# Altium schematic symbol library Vowstar_Basic_Device.SchLib: 150 symbols
Pins are listed as number, name and electrical type; pins without a type are passive.

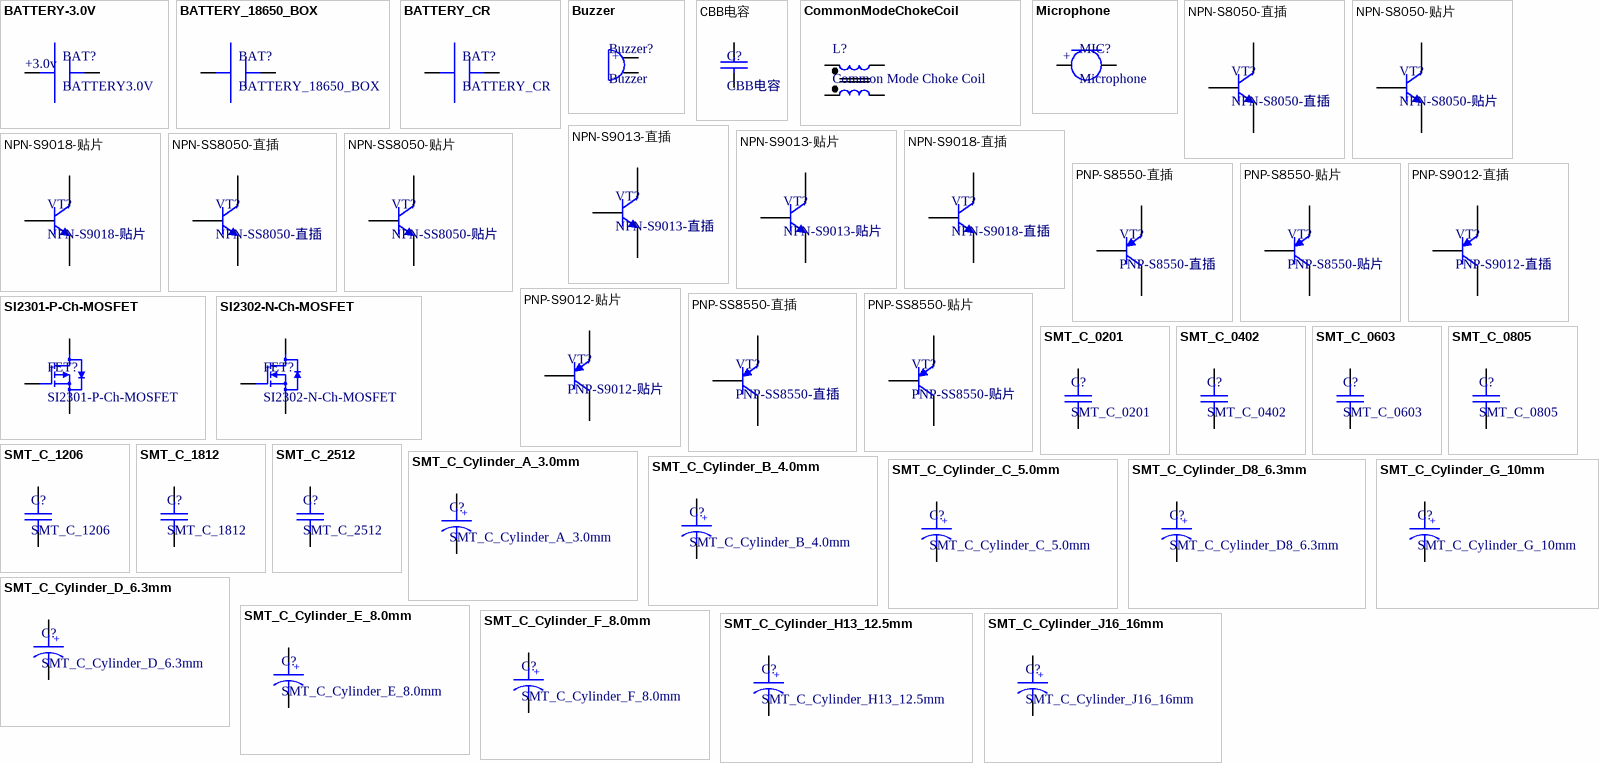
[diagram p0: symbols BATTERY-3.0V to SMT_C_Cylinder_J16_16mm]

## BATTERY-3.0V
designator BAT?, comment BATTERY3.0V
footprint BATTERY3.0V
pins: 1 +, 2 -
text: +3.0v

## BATTERY_18650_BOX
designator BAT?
footprint BATTERY_18650_BOX
pins: 1 +, 2 -

## BATTERY_CR
designator BAT?
CR1220/CR2032
footprint BATTERY_CR1220 (CR1220)
footprint BATTERY_CR2032 (CR2032)
pins: 1 +, 2 -

## Buzzer
designator Buzzer?
footprint Buzzer
footprint BUZZER-SMALL-PAD
pins: 1, 2
text: +

## CBB电容
designator C?
footprint CBB电容-5mm (CBB电容)
footprint CBB电容-10mm (CBB电容)
footprint CBB电容-15mm (CBB电容)
footprint CBB电容-20mm (CBB电容)
footprint CBB电容-25mm (CBB电容)
pins: 1, 2

## CommonModeChokeCoil
designator L?, comment Common Mode Choke Coil
Common Mode Choke Coils
footprint DLW5BT (DLW5BT Series (2020 Size) Common Mode Choke Coil Wire Wound Type for Large Current)
pins: 1, 2, 3, 4

## Microphone
designator MIC?
footprint Microphone
pins: 1 +, 2 -

## NPN-S8050-直插
designator VT?
footprint NPN-S8050-直插
pins: 1 E, 2 B, 3 C

## NPN-S8050-贴片
designator VT?
footprint NPN-S8050-贴片
pins: 1 B, 2 E, 3 C

## NPN-S9013-直插
designator VT?
footprint NPN-S9013-直插
pins: 1 E, 2 B, 3 C

## NPN-S9013-贴片
designator VT?
footprint NPN-S9013-贴片
pins: 1 B, 2 E, 3 C

## NPN-S9018-直插
designator VT?
footprint NPN-S9018-直插
pins: 1 E, 2 B, 3 C

## NPN-S9018-贴片
designator VT?
footprint NPN-S9018-贴片
pins: 1 B, 2 E, 3 C

## NPN-SS8050-直插
designator VT?
footprint NPN-SS8050-直插
pins: 1 E, 2 B, 3 C

## NPN-SS8050-贴片
designator VT?
footprint NPN-SS8050-贴片
pins: 1 B, 2 E, 3 C

## PNP-S8550-直插
designator VT?
footprint PNP-S8550-直插
pins: 1 E, 2 B, 3 C

## PNP-S8550-贴片
designator VT?
footprint PNP-S8550-贴片
pins: 1 B, 2 E, 3 C

## PNP-S9012-直插
designator VT?
footprint PNP-S9012-直插
pins: 1 E, 2 B, 3 C

## PNP-S9012-贴片
designator VT?
footprint PNP-S9012-贴片
pins: 1 B, 2 E, 3 C

## PNP-SS8550-直插
designator VT?
footprint PNP-SS8550-直插
pins: 1 E, 2 B, 3 C

## PNP-SS8550-贴片
designator VT?
footprint PNP-SS8550-贴片
pins: 1 B, 2 E, 3 C

## SI2301-P-Ch-MOSFET
designator FET?
SI2301-P-Ch,-2.3A, -20V.RDS(ON) = 0.190Ω @ VGS = -2.5 V
footprint SI2301-P-Ch-MOSFET
pins: 1 G, 2 S, 3 D

## SI2302-N-Ch-MOSFET
designator FET?
SI2302-N-Ch,3A, 20V.RDS(ON) = 0.082Ω @ VGS = 2.5 V
footprint SI2302-N-Ch-MOSFET
pins: 1 G, 2 S, 3 D

## SMT_C_0201
designator C?
Surface mount capacitor 0201
footprint SMT_C_0201
footprint SMT_C_0201_H (Chip Capacitor, 2-Leads, Body 0.60x0.30mm, IPC High Density)
pins: 1, 2

## SMT_C_0402
designator C?
Surface mount capacitor 0402
footprint SMT_C_0402 (Surface mount capacitor 0402)
pins: 1, 2

## SMT_C_0603
designator C?
Surface mount capacitor 0603
footprint SMT_C_0603 (Surface mount capacitor 0603)
pins: 1, 2

## SMT_C_0805
designator C?
Surface mount capacitor 0805
footprint SMT_C_0805 (Surface mount capacitor 0805)
pins: 1, 2

## SMT_C_1206
designator C?
Surface mount capacitor 1206
footprint SMT_C_1206 (Surface mount capacitor 1206)
pins: 1, 2

## SMT_C_1812
designator C?
Surface mount capacitor 1812
footprint SMT_C_1812 (Surface mount capacitor 1812)
pins: 1, 2

## SMT_C_2512
designator C?
Surface mount capacitor 2512
footprint SMT_C_2512 (Surface mount capacitor 2512)
pins: 1, 2

## SMT_C_Cylinder_A_3.0mm
designator C?
Surface mount cylindrical capacitor-A-3.0mm
footprint SMT_C_Cylinder_A_3.0mm (Surface mount cylindrical capacitor type A 3.0mm)
pins: 1, 2
text: +

## SMT_C_Cylinder_B_4.0mm
designator C?
Surface mount cylindrical capacitor-B-4.0mm
footprint SMT_C_Cylinder_B_4.0mm (Surface mount cylindrical capacitor type B 4.0mm)
pins: 1, 2
text: +

## SMT_C_Cylinder_C_5.0mm
designator C?
Surface mount cylindrical capacitor-C-5.0mm
footprint SMT_C_Cylinder_C_5.0mm (Surface mount cylindrical capacitor type C 5.0mm)
pins: 1, 2
text: +

## SMT_C_Cylinder_D8_6.3mm
designator C?
Surface mount cylindrical capacitor-D8-6.3mm
footprint SMT_C_Cylinder_D8_6.3mm (Surface mount cylindrical capacitor type D8 6.3mm)
pins: 1, 2
text: +

## SMT_C_Cylinder_D_6.3mm
designator C?
Surface mount cylindrical capacitor-D-6.3mm
footprint SMT_C_Cylinder_D_6.3mm (Surface mount cylindrical capacitor type D 6.3mm)
pins: 1, 2
text: +

## SMT_C_Cylinder_E_8.0mm
designator C?
Surface mount cylindrical capacitor-E-8.0mm
footprint SMT_C_Cylinder_E_8.0mm (Surface mount cylindrical capacitor type E 8.0mm)
pins: 1, 2
text: +

## SMT_C_Cylinder_F_8.0mm
designator C?
Surface mount cylindrical capacitor-F-8.0mm
footprint SMT_C_Cylinder_F_8.0mm (Surface mount cylindrical capacitor type F 8.0mm)
pins: 1, 2
text: +

## SMT_C_Cylinder_G_10mm
designator C?
Surface mount cylindrical capacitor-G-10mm
footprint SMT_C_Cylinder_G_10mm (Surface mount cylindrical capacitor type G 10mm)
pins: 1, 2
text: +

## SMT_C_Cylinder_H13_12.5mm
designator C?
Surface mount cylindrical capacitor-H13-12.5mm
footprint SMT_C_Cylinder_H13_12.5mm (Surface mount cylindrical capacitor type H 12.5mm)
pins: 1, 2
text: +

## SMT_C_Cylinder_J16_16mm
designator C?
Surface mount cylindrical capacitor-J16-16mm
footprint SMT_C_Cylinder_J16_16mm (Surface mount cylindrical capacitor type J16 16mm)
pins: 1, 2
text: +

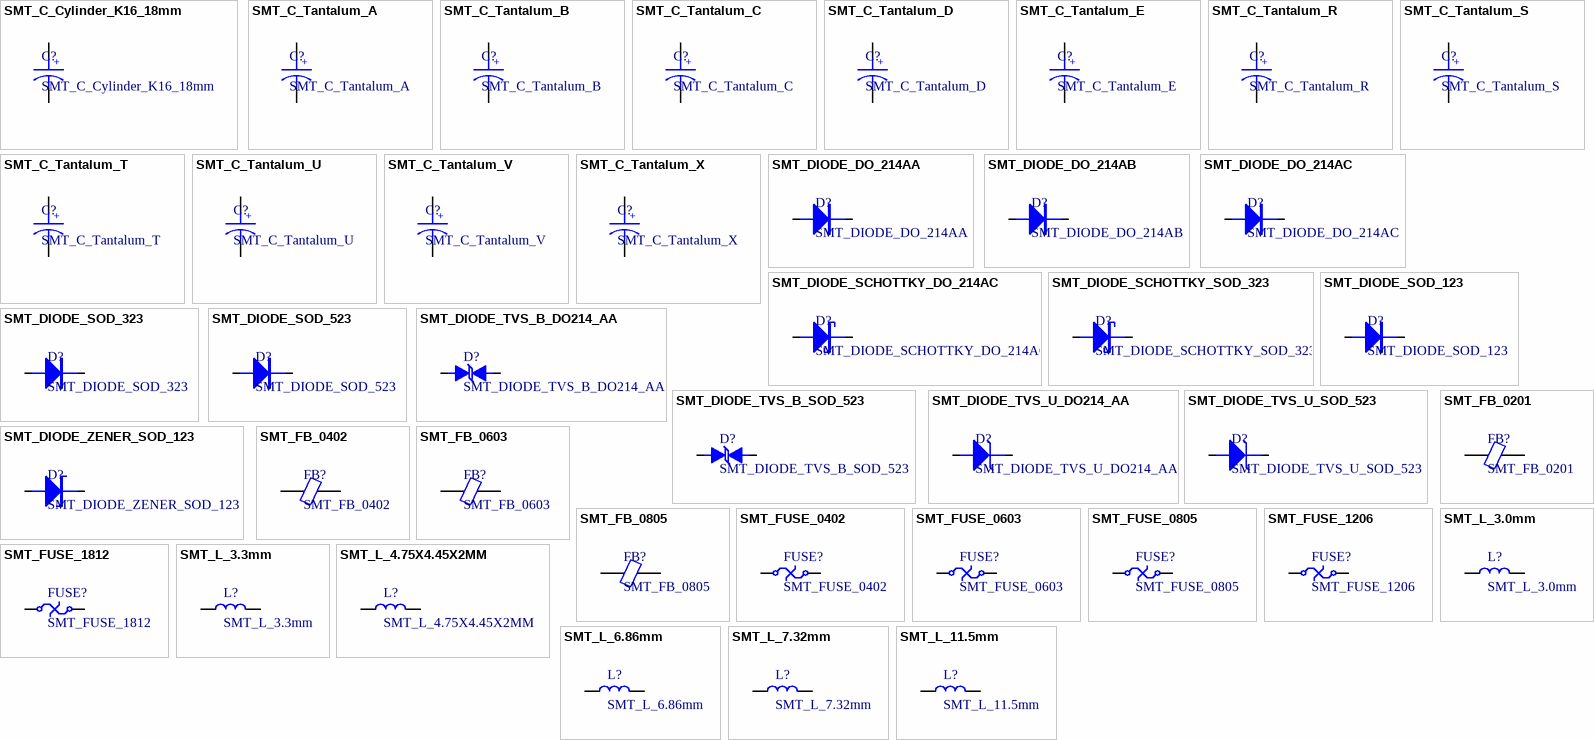
[diagram p1: symbols SMT_C_Cylinder_K16_18mm to SMT_L_11.5mm]

## SMT_C_Cylinder_K16_18mm
designator C?
Surface mount cylindrical capacitor-K16-18mm
footprint SMT_C_Cylinder_K16_18mm (Surface mount cylindrical capacitor type K16 18mm)
pins: 1, 2
text: +

## SMT_C_Tantalum_A
designator C?
Capacitor, SM Tantalum; Body 3.2 x 1.6 mm (LxW typ)
footprint SMT_C_Tantalum_A (Capacitor, SM Tantalum; Body 3.2 x 1.6 mm (LxW typ))
pins: 1, 2
text: +

## SMT_C_Tantalum_B
designator C?
Capacitor, SM Tantalum; Body 3.5 x 2.8 mm (LxW typ)
footprint SMT_C_Tantalum_B (Capacitor, SM Tantalum; Body 3.5 x 2.8 mm (LxW typ))
pins: 1, 2
text: +

## SMT_C_Tantalum_C
designator C?
Capacitor, SM Tantalum; Body 6.0 x 3.2 mm (LxW typ)
footprint SMT_C_Tantalum_C (Capacitor, SM Tantalum; Body 6.0 x 3.2 mm (LxW typ))
pins: 1, 2
text: +

## SMT_C_Tantalum_D
designator C?
Capacitor, SM Tantalum; Body 7.3 x 4.3 mm (LxW typ)
footprint SMT_C_Tantalum_D (Capacitor, SM Tantalum; Body 7.3 x 4.3 mm (LxW typ))
pins: 1, 2
text: +

## SMT_C_Tantalum_E
designator C?
Capacitor, SM Tantalum; Body 7.3 x 6.0 mm (LxW typ)
footprint SMT_C_Tantalum_E (Capacitor, SM Tantalum; Body 7.3 x 6.0 mm (LxW typ))
pins: 1, 2
text: +

## SMT_C_Tantalum_R
designator C?
Capacitor, SM Tantalum; Body 2.0 x 1.3 mm (LxW typ)
footprint SMT_C_Tantalum_R (Capacitor, SM Tantalum; Body 2.0 x 1.3 mm (LxW typ))
pins: 1, 2
text: +

## SMT_C_Tantalum_S
designator C?
Capacitor, SM Tantalum; Body 3.2 x 1.6 mm (LxW typ)
footprint SMT_C_Tantalum_S (Capacitor, SM Tantalum; Body 3.2 x 1.6 mm (LxW typ))
pins: 1, 2
text: +

## SMT_C_Tantalum_T
designator C?
Capacitor, SM Tantalum; Body 3.5 x 2.8 mm (LxW typ)
footprint SMT_C_Tantalum_T (Capacitor, SM Tantalum; Body 3.5 x 2.8 mm (LxW typ))
pins: 1, 2
text: +

## SMT_C_Tantalum_U
designator C?
Capacitor, SM Tantalum; Body 6.0 x 3.2 mm (LxW typ)
footprint SMT_C_Tantalum_U (Capacitor, SM Tantalum; Body 6.0 x 3.2 mm (LxW typ))
pins: 1, 2
text: +

## SMT_C_Tantalum_V
designator C?
Capacitor, SM Tantalum; Body 7.3 x 4.3 mm (LxW typ)
footprint SMT_C_Tantalum_V (Capacitor, SM Tantalum; Body 7.3 x 4.3 mm (LxW typ))
pins: 1, 2
text: +

## SMT_C_Tantalum_X
designator C?
Capacitor, SM Tantalum; Body 7.3 x 4.3 mm (LxW typ)
footprint SMT_C_Tantalum_X (Capacitor, SM Tantalum; Body 7.3 x 4.3 mm (LxW typ))
pins: 1, 2
text: +

## SMT_DIODE_DO_214AA
designator D?
Surface mount diode DO-214AA(SMB) Package
footprint SMT_DIODE_DO_214AA (DO-214AA(SMB) Package)
pins: 1 A, 2 K

## SMT_DIODE_DO_214AB
designator D?
Surface mount diode DO-214AB(SMC) Package
footprint SMT_DIODE_DO_214AB (DO-214AB(SMC) Package)
pins: 1 A, 2 K

## SMT_DIODE_DO_214AC
designator D?
Surface mount diode DO-214AC(SMA) package
footprint SMT_DIODE_DO_214AC (DO-214AC(SMA) Package)
pins: 1 A, 2 K

## SMT_DIODE_SCHOTTKY_DO_214AC
designator D?
Surface mount schottky diode DO-214AC(SMA) Package
footprint SMT_DIODE_DO_214AC (DO-214AC(SMA) Package)
pins: 1 A, 2 K

## SMT_DIODE_SCHOTTKY_SOD_323
designator D?
Surface mount schottky diode SOD-323(0805) Package
footprint SMT_DIODE_SOD_323 (SOD-323(0805) Package)
pins: 1 A, 2 K

## SMT_DIODE_SOD_123
designator D?
Surface mount diode SOD-123(1206) Package
footprint SMT_DIODE_SOD_123 (SOD-123(1206) Package)
pins: 1 A, 2 K

## SMT_DIODE_SOD_323
designator D?
Surface mount diode SOD-323(0805) Package
footprint SMT_DIODE_SOD_323 (SOD-323(0805) Package)
pins: 1 A, 2 K

## SMT_DIODE_SOD_523
designator D?
Surface mount diode SOD-523(0603) Package
footprint SMT_DIODE_SOD_523 (SOD-523(0603) Package)
pins: 1 A, 2 K

## SMT_DIODE_TVS_B_DO214_AA
designator D?
Surface mount bidirectional TVS diode DO-214AA(SMB) Package
footprint SMT_DIODE_DO_214AA (DO-214AA(SMB) Package)
pins: 1 A, 2 K

## SMT_DIODE_TVS_B_SOD_523
designator D?
Surface mount bidirectional TVS diode SOD-523(0603) Package
footprint SMT_DIODE_SOD_523 (SOD-523(0603) Package)
pins: 1 A, 2 K

## SMT_DIODE_TVS_U_DO214_AA
designator D?
Surface mount unidirectional TVS diode DO-214AA(SMB) Package
footprint SMT_DIODE_DO_214AA (DO-214AA(SMB) Package)
pins: 1 A, 2 K

## SMT_DIODE_TVS_U_SOD_523
designator D?
Surface mount unidirectional TVS diode SOD-523(0603) Package
footprint SMT_DIODE_SOD_523 (SOD-523(0603) Package)
pins: 1 A, 2 K

## SMT_DIODE_ZENER_SOD_123
designator D?
Surface mount zener diode SOD-123(1206) Package
footprint SMT_DIODE_SOD_123 (SOD-123(1206) Package)
pins: 1 A, 2 K

## SMT_FB_0201
designator FB?
Surface mount ferrite beads 0201
footprint SMT_FB_0201 (Surface mount ferrite beads 0201)
footprint SMT_FB_0201_H (Chip Ferrite beads, 2-Leads, Body 0.60x0.30mm, IPC High Density)
pins: 1, 2

## SMT_FB_0402
designator FB?
Surface mount ferrite beads 0402
footprint SMT_FB_0402 (Surface mount ferrite beads 0402)
pins: 1, 2

## SMT_FB_0603
designator FB?
Surface mount ferrite beads 0603
footprint SMT_FB_0603 (Surface mount ferrite beads 0603)
pins: 1, 2

## SMT_FB_0805
designator FB?
Surface mount ferrite beads 0805
footprint SMT_FB_0805 (Surface mount ferrite beads 0805)
pins: 1, 2

## SMT_FUSE_0402
designator FUSE?
footprint SMT_FUSE_0402 (Surface mount FUSE 0402)
pins: 1, 2

## SMT_FUSE_0603
designator FUSE?
footprint SMT_FUSE_0603
pins: 1, 2

## SMT_FUSE_0805
designator FUSE?
footprint SMT_FUSE_0805
pins: 1, 2

## SMT_FUSE_1206
designator FUSE?
footprint SMT_FUSE_1206 (Surface mount FUSE 1206)
pins: 1, 2

## SMT_FUSE_1812
designator FUSE?
footprint SMT_FUSE_1812
pins: 1, 2

## SMT_L_3.0mm
designator L?
SMT Power Inductor, 3.3x3.3x1mm
footprint SMT_L_3.0mm (SMT Power Inductor, 3.0x3.0x1mm)
pins: 1, 2

## SMT_L_3.3mm
designator L?
LPO3310 SMT Power Inductor, 3.3x3.3x1mm
footprint SMT_L_3.3mm (LPO3310 SMT Power Inductor, 3.3x3.3x1mm)
pins: 1, 2

## SMT_L_4.75X4.45X2MM
designator L?
SMT Power Inductor,4.75x4.45x2mm, FXL0420-4R7-M
footprint SMT_L_4.75X4.45X2MM (SMT Power Inductor,4.75x4.45x2mm, FXL0420-4R7-M)
pins: 1, 2

## SMT_L_6.86mm
designator L?
Vishay IHLP2525,SMT Power Inductor,6.86x6.86x3mm
footprint SMT_L_6.86mm (Vishay IHLP2525,SMT Power Inductor,6.86x6.86x3mm)
pins: 1, 2

## SMT_L_7.32mm
designator L?
Power Inductor, 7.32x7.32x4mm
footprint SMT_L_7.32mm (Power Inductor, 7.32x7.32x4mm)
pins: 1, 2

## SMT_L_11.5mm
designator L?
Vishay HLP4040 SMT Inductor,11.5x11.5x4mm
footprint SMT_L_11.5mm (Vishay HLP4040 SMT Inductor,11.5x11.5x4mm)
pins: 1, 2

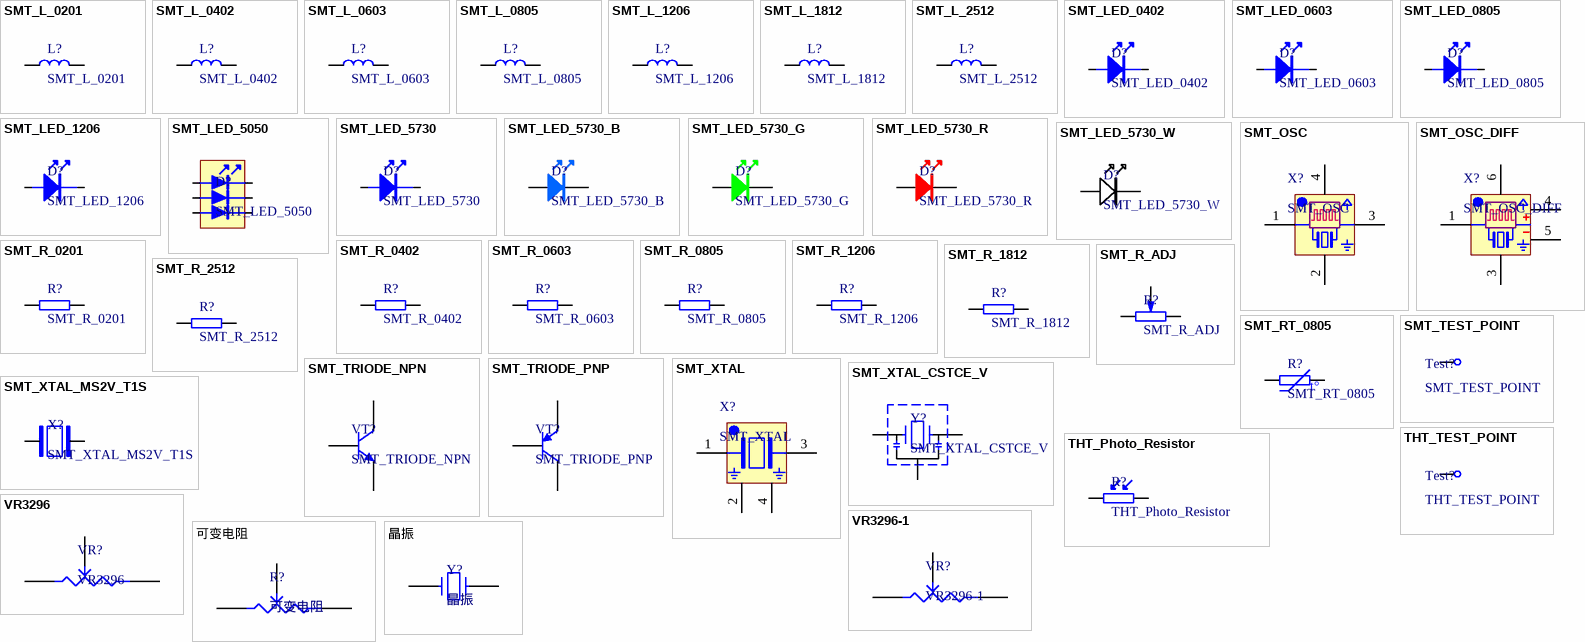
[diagram p2: symbols SMT_L_0201 to 晶振]

## SMT_L_0201
designator L?
Surface mount inductor 0201
footprint SMT_L_0201 (Surface mount inductors 0201)
footprint SMT_L_0201_H (Chip Inductor, 2-Leads, Body 0.60x0.30mm, IPC High Density)
pins: 1, 2

## SMT_L_0402
designator L?
Surface mount inductor 0402
footprint SMT_L_0402 (Surface mount inductor 0402)
pins: 1, 2

## SMT_L_0603
designator L?
Surface mount inductor 0603
footprint SMT_L_0603 (Surface mount inductor 0603)
pins: 1, 2

## SMT_L_0805
designator L?
Surface mount inductor 0805
footprint SMT_L_0805 (Surface mount inductor 0805)
pins: 1, 2

## SMT_L_1206
designator L?
Surface mount inductor 1206
footprint SMT_L_1206 (Surface mount inductor 1206)
pins: 1, 2

## SMT_L_1812
designator L?
Surface mount inductor 1812
footprint SMT_L_1812 (Surface mount inductor 1812)
pins: 1, 2

## SMT_L_2512
designator L?
Surface mount inductor 2512
footprint SMT_L_2512 (Surface mount inductor 2512)
pins: 1, 2

## SMT_LED_0402
designator D?
Surface mount LED 0402
footprint SMT_LED_0402 (Surface mount LED 0402)
pins: 1 A, 2 K

## SMT_LED_0603
designator D?
Surface mount LED 0603
footprint SMT_LED_0603 (SMT LED)
pins: 1 A, 2 K

## SMT_LED_0805
designator D?
Surface mount LED 0805
footprint SMT_LED_0805 (SMT LED)
pins: 1 A, 2 K

## SMT_LED_1206
designator D?
Surface mount LED 1206
footprint SMT_LED_1206 (Surface mount resistor 1206)
pins: 1 A, 2 K

## SMT_LED_5050
designator D?
Surface mount LED 5050
footprint SMT_LED_5050 (SMT LED)
footprint SMT_LED_5050_PAD (SMT LED)
pins: 1 K1, 2 K2, 3 K3, 4 A3, 5 A2, 6 A1

## SMT_LED_5730
designator D?
Surface mount LED 5730
footprint SMT_LED_5730_W (SMT LED 5730 Package)
footprint SMT_LED_5730_R (SMT LED 5730 Package)
footprint SMT_LED_5730_G (SMT LED 5730 Package)
footprint SMT_LED_5730_B (SMT LED 5730 Package)
pins: 1 A, 2 K

## SMT_LED_5730_B
designator D?
Surface mount LED 5730
footprint SMT_LED_5730_B (SMT LED 5730 Package)
pins: 1 A, 2 K

## SMT_LED_5730_G
designator D?
Surface mount LED 5730
footprint SMT_LED_5730_G (SMT LED 5730 Package)
pins: 1 A, 2 K

## SMT_LED_5730_R
designator D?
Surface mount LED 5730
footprint SMT_LED_5730_R (SMT LED 5730 Package)
pins: 1 A, 2 K

## SMT_LED_5730_W
designator D?
Surface mount LED 5730
footprint SMT_LED_5730_W (SMT LED 5730 Package)
pins: 1 A, 2 K

## SMT_OSC
designator X?
Active oscillator
footprint SMT_XTAL_2520 (Quartz Crystal, SM; Body 2.5 x 2.0 mm)
footprint SMT_XTAL_3225 (Quartz Crystal, SM; Body 3.2 x 2.5 mm)
pins: 1 OE/~{ST}/NC/GND "Output Enable (High) / Standby (Low) / Ground", 2 GND (power) "Electrical ground", 3 CLKO "Oscillator output", 4 VDD (power) "Power supply of oscillator"

## SMT_OSC_DIFF
designator X?
Differential active oscillator
footprint QFN_3225_6P (SMT; Body 5.0 x 3.2 mm)
pins: 1 ST/OE/SD "Standby or Output Enable pin for OUT+ andOUT-.  When High or Open : OUT+ and OUT- = active. When Low : OUT+ and OUT- = Output is low (weak pull down), oscillation stops.", 3 GND (power) "Electrical ground", 4 CLKO_P "Positive clock output.", 5 CLKO_N "Negative clock output.", 6 VDD (power) "Power supply of oscillator"

## SMT_R_0201
designator R?
Surface mount resistor 0201
footprint SMT_R_0201
footprint SMT_R_0201_H (Chip Resistor, 2-Leads, Body 0.60x0.30mm, IPC High Density)
pins: 1, 2

## SMT_R_0402
designator R?
Surface mount resistor 0402
footprint SMT_R_0402 (Surface mount resistor 0402)
pins: 1, 2

## SMT_R_0603
designator R?
Surface mount resistor 0603
footprint SMT_R_0603 (Surface mount resistor 0603)
pins: 1, 2

## SMT_R_0805
designator R?
Surface mount resistor 0805
footprint SMT_R_0805 (Surface mount resistor 0805)
pins: 1, 2

## SMT_R_1206
designator R?
Surface mount resistor 1206
footprint SMT_R_1206 (Surface mount resistor 1206)
pins: 1, 2

## SMT_R_1812
designator R?
Surface mount resistor 1812
footprint SMT_R_1812 (Surface mount resistor 1812)
pins: 1, 2

## SMT_R_2512
designator R?
Surface mount resistor 2512
footprint SMT_R_2512 (Surface mount resistor 2512)
pins: 1, 2

## SMT_R_ADJ
designator R?
Surface mount Trimmer, Adjustable resistor
footprint SMT_R_ADJ_3313J_1 (3313J SMD Cermet Trimmer Adjustable resistor)
footprint SMT_R_ADJ_3313J_2 (3313J SMD Cermet Trimmer Adjustable resistor)
footprint SMT_R_ADJ_3313X_1 (3313J SMD Cermet Trimmer Adjustable resistor)
footprint SMT_R_ADJ_3313X_2 (3313J SMD Cermet Trimmer Adjustable resistor)
pins: 1 CCW, 2 WIPER, 3 CW

## SMT_RT_0805
designator R?
Surface mount thermal resistor (thermistor) 0805
footprint SMT_R_0805 (Surface mount resistor 0805)
pins: 1, 2
text: t°

## SMT_TEST_POINT
designator Test?
SMT Test Point
footprint SMT_TEST_POINT (SMT Test Point)
footprint SMT_TEST_POINT_KEYSTONE_5015 (KEYSTONE (SMT) SURFACE MOUNT TEST POINTS  3.4x1.8x1.5mm)
footprint SMT_TEST_POINT_KEYSTONE_5016 (KEYSTONE (SMT) SURFACE MOUNT TEST POINTS  4.7x3.43x2.29mm)
pins: 1

## SMT_TRIODE_NPN
designator VT?
Surface mount NPN transistor, package SOT-23
footprint SMT_TRIODE_NPN (Surface mount NPN transistor, package SOT-23)
pins: 1 B, 2 E, 3 C

## SMT_TRIODE_PNP
designator VT?
Surface mount PNP transistor, package SOT-23
footprint SMT_TRIODE_PNP (Surface mount PNP transistor, package SOT-23)
pins: 1 B, 2 E, 3 C

## SMT_XTAL
designator X?
Passive crystal oscillator
footprint SMT_XTAL_2520 (Quartz Crystal, SM; Body 2.5 x 2.0 mm)
footprint SMT_XTAL_3225 (Quartz Crystal, SM; Body 3.2 x 2.5 mm)
pins: 1 IN/OUT "Connected to quartz element", 2 GND (power) "Ground", 3 IN/OUT "Connected to quartz element", 4 GND (power) "Ground"

## SMT_XTAL_CSTCE_V
designator Y?
MURATA CSTCE_V Ceramic oscillator,  with built-in load capacitance.
footprint SMT_XTAL_CSTCE_V (MURATA CSTCE_V)
pins: 1, 2, 3

## SMT_XTAL_MS2V_T1S
designator X?
The MS2V-T1S is a miniature square-bodied 1.5 x 1.5 x 5 mm metal-can  package with formed leads, intended for surface mounting and reflow  soldering.; VENDOR: MICRO CRYSTAL SWITZERLAND
footprint SMT_XTAL_MS2V_T1S (MS2V-T1S is a miniature square-bodied 1.5 x 1.5 x 5 mm metal-can  package with formed leads)
pins: 1 IN/OUT, 2 IN/OUT

## THT_Photo_Resistor
designator R?
footprint THT_Photo_Resistor (PDV-P5001)
pins: 1, 2

## THT_TEST_POINT
designator Test?
THT Test Point
footprint THT_TEST_POINT (THT Test Point)
pins: 1

## VR3296
designator VR?
footprint VR3296
pins: 1 A, 2 B, W TAP

## VR3296-1
designator VR?
footprint VR3296-1
pins: 1 A, 2 B, W TAP

## 可变电阻
designator R?
footprint 可变电阻
pins: 1 A, 2 B, 3 TAP

## 晶振
designator Y?
footprint 晶振-2x6mm-BENT
footprint 晶振-3x8mm-BENT
footprint 晶振-HC49-SMD (Quartz Crystal  PTH HC49 SMD)
footprint 晶振-HC49-U (Quartz Crystal  PTH HC49-U)
footprint 晶振-HC49S (Quartz Crystal  PTH HC49S)
footprint 晶振-UM-1 (Quartz Crystal  PTH UM-1)
pins: 1, 2

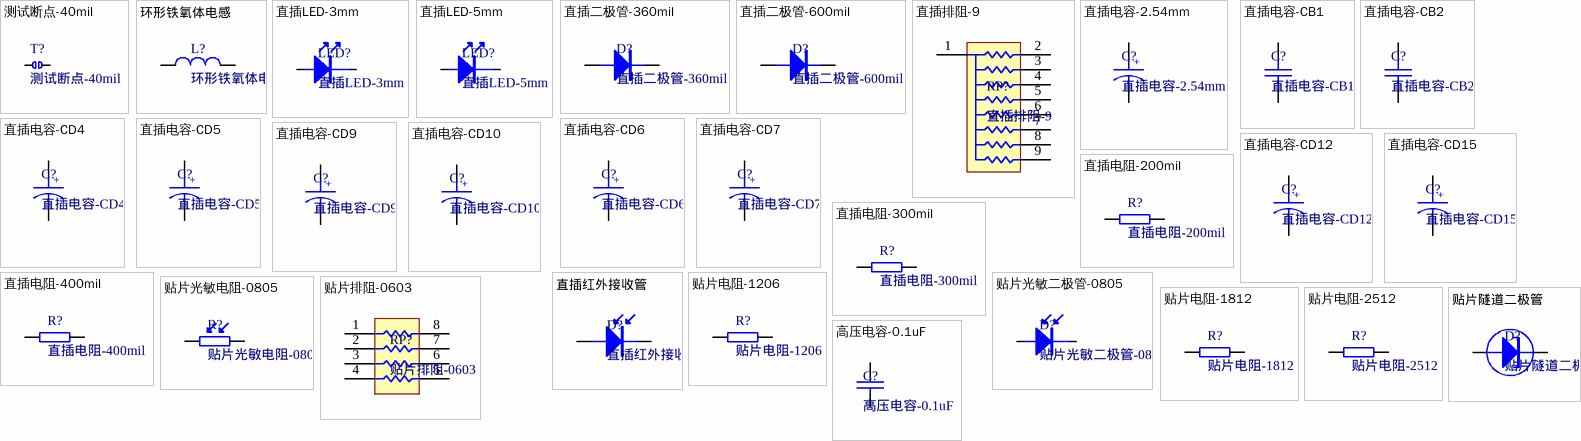
[diagram p3: symbols 测试断点-40mil to 高压电容-0.1uF]

## 测试断点-40mil
designator T?
两个月牙形焊盘.默认断开状态,需要连接时可以焊接到一起.
footprint 测试断点-40mil
pins: 1, 2

## 环形铁氧体电感
designator L?
footprint 环形铁氧体电感
pins: 1, 2

## 直插LED-3mm
designator LED?
footprint 直插LED-3mm (直插LED)
pins: 1 A, 2 K

## 直插LED-5mm
designator LED?
footprint 直插LED-5mm (直插LED)
pins: 1 A, 2 K

## 直插二极管-360mil
designator D?
footprint 直插二极管-360mil
pins: 1 A, 2 K

## 直插二极管-600mil
designator D?
footprint 直插二极管-600mil
pins: 1 A, 2 K

## 直插排阻-9
designator RP?
footprint 直插排阻-9 (直插排阻)
pins: 1, 2, 3, 4, 5, 6, 7, 8, 9

## 直插电容-2.54mm
designator C?
footprint 直插电容-2.54mm
pins: 1, 2
text: +

## 直插电容-CB1
designator C?
footprint 直插电容-CB1 (直插电容)
pins: 1, 2

## 直插电容-CB2
designator C?
footprint 直插电容-CB2 (直插电容)
pins: 1, 2

## 直插电容-CD4
designator C?
footprint 直插电容-CD4 (直插电容)
pins: 1, 2
text: +

## 直插电容-CD5
designator C?
footprint 直插电容-CD5 (直插电容)
pins: 1, 2
text: +

## 直插电容-CD6
designator C?
footprint 直插电容-CD6 (直插电容)
pins: 1, 2
text: +

## 直插电容-CD7
designator C?
footprint 直插电容-CD7 (直插电容)
pins: 1, 2
text: +

## 直插电容-CD9
designator C?
footprint 直插电容-CD9 (直插电容)
pins: 1, 2
text: +

## 直插电容-CD10
designator C?
footprint 直插电容-CD10 (直插电容)
pins: 1, 2
text: +

## 直插电容-CD12
designator C?
footprint 直插电容-CD12 (直插电容)
pins: 1, 2
text: +

## 直插电容-CD15
designator C?
footprint 直插电容-CD15 (直插电容)
pins: 1, 2
text: +

## 直插电阻-200mil
designator R?
footprint 直插电阻-200mil (直插电阻)
pins: 1, 2

## 直插电阻-300mil
designator R?
footprint 直插电阻-300mil (直插电阻)
pins: 1, 2

## 直插电阻-400mil
designator R?
footprint 直插电阻-400mil
pins: 1, 2

## 直插红外接收管
designator D?
footprint 直插红外接收管
pins: 1 A, 2 K

## 贴片光敏二极管-0805
designator D?
footprint 贴片光敏二极管-0805 (光敏二极管)
pins: 1 A, 2 K

## 贴片光敏电阻-0805
designator R?
footprint 贴片光敏电阻-0805 (光敏电阻)
pins: 1, 2

## 贴片排阻-0603
designator RP?
footprint 贴片排阻-0603
pins: 1, 2, 3, 4, 5, 6, 7, 8

## 贴片电阻-1206
designator R?
footprint 贴片电阻-1206 (Chip Resistor, Body 3.2x1.6mm, IPC Low Density)
pins: 1, 2

## 贴片电阻-1812
designator R?
footprint 贴片电阻-1812
pins: 1, 2

## 贴片电阻-2512
designator R?
footprint 贴片电阻-2512
pins: 1, 2

## 贴片隧道二极管
designator D?
pins: 1 A, 2 K

## 高压电容-0.1uF
designator C?
footprint 高压电容-0.1uF (高压电容0.1uF)
pins: 1, 2